# Altium footprint library Relay.PcbLib: 14 footprints
Each footprint in its own frame and in the unit in brackets; x right, y up, seen from the top. Pads: shape width x height; smd on the part's side, far side on the other; paste and mask are expansions set on the pad; w line width, h text height; cw(c..) or ccw(c..) is an arc to the next point about the centre after c.
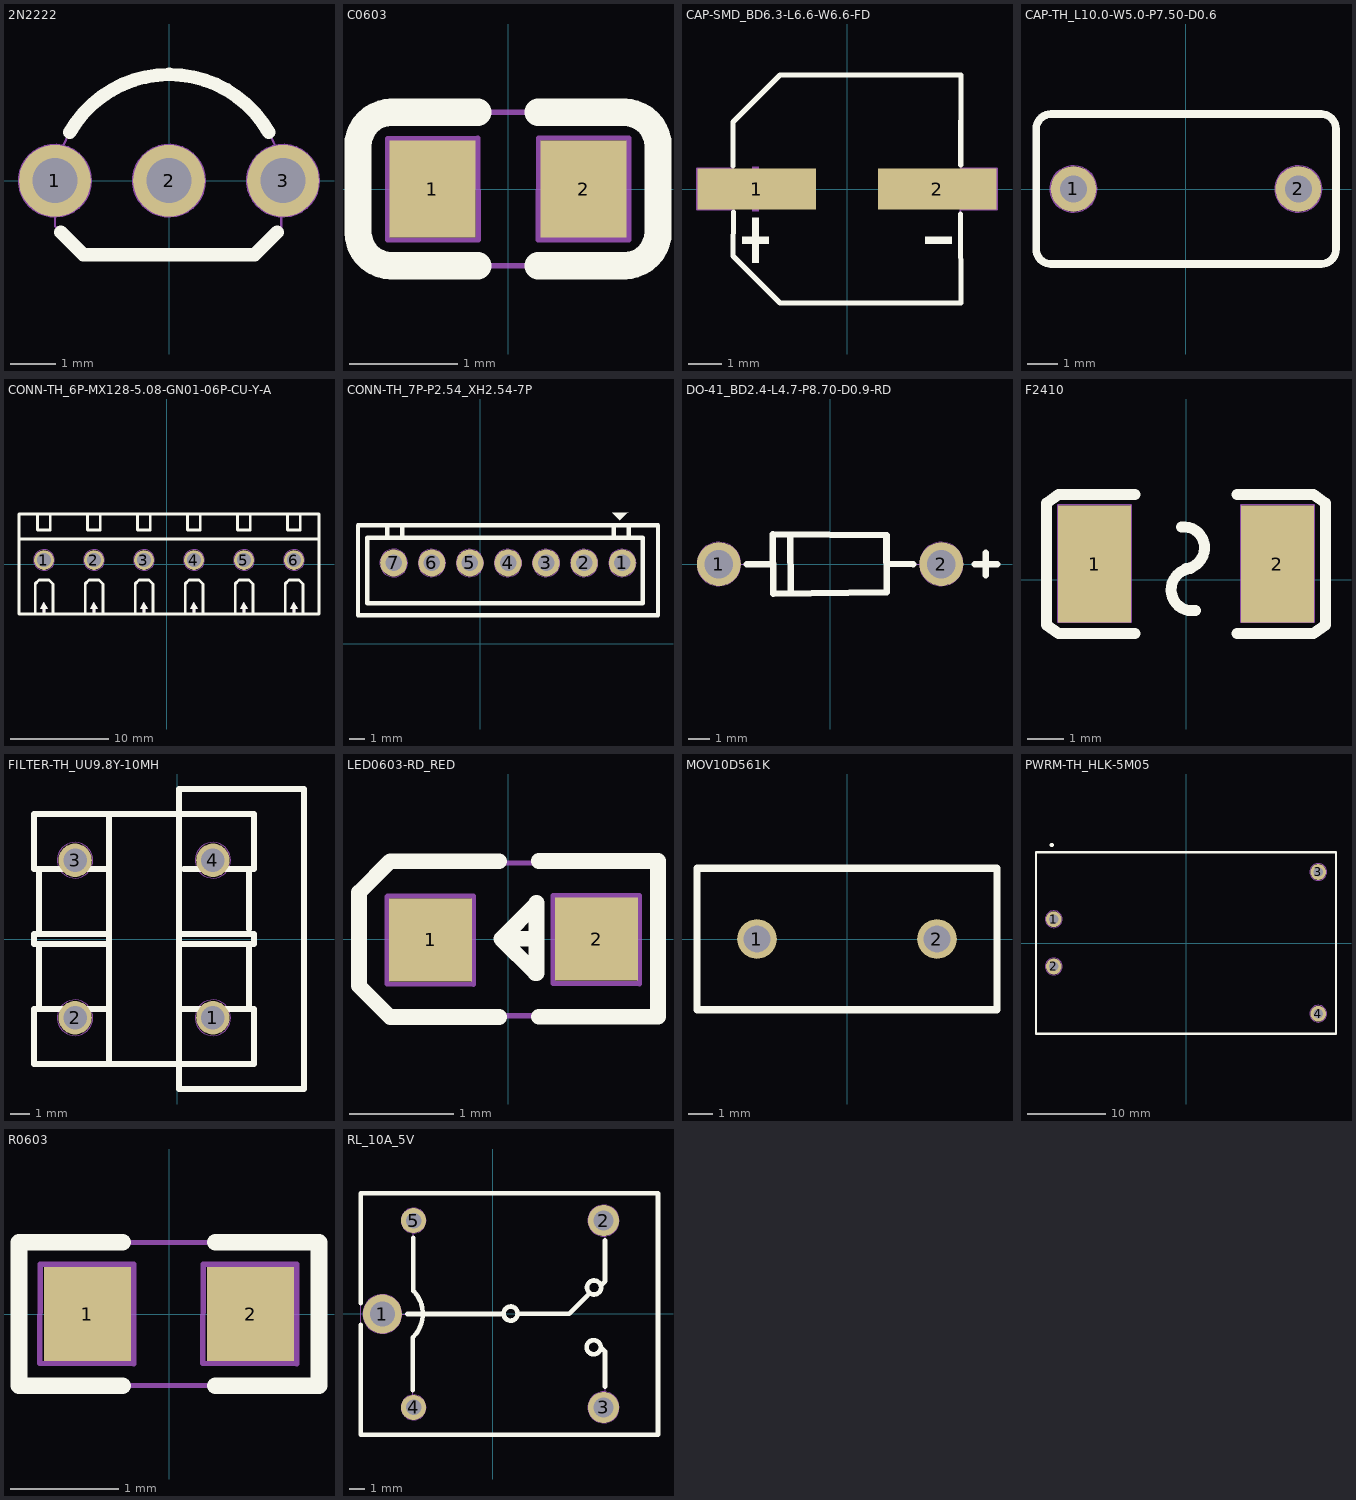
[diagram p0: the footprints below, top view; thin cyan lines are the x and y axes]

## 2N2222 [mm] "TO-92 Bent Lead, Flat Index; 3 In-Line, Axial Leads; Body Dia. 4.5mm; Leads 0.51 x 0.48 mm (max)"
height 6.5
pads (3):
  round 1.6 hole 1 mask+0.1: 1(-2.54,0) 2(0,0)
  round 1.6 hole 1: 3(2.54,0)
Top Overlay:
  lines w0.3: -2.413,-1.143 -1.905,-1.651 1.905,-1.651 2.413,-1.143 ; -2.212,1.074 cw(c0.006,-0.185) 2.221,1.079
Mechanical 1:
  circle w0.05: c2.54,0 r0.8
  circle w0.05: c0,0 r0.8
  circle w0.05: c-2.54,0 r0.8
  lines w0.05: -2.54,-0.8 -2.54,-1.016 -1.905,-1.651 1.905,-1.651 2.5,-1.056 2.5,-0.8 ; -2.351,0.789 cw(c0.006,-0.185) 2.364,0.785
  text "C" at 2.4,-0.4 h0.8
  text "E" at -2.8,-0.4 h0.8
  text "B" at -0.2,-0.4 h0.8
Mechanical 15:
  lines w0.1: -0.5,0 0.5,0 ; 0,-0.5 0,0.5
3D body "TO-92_Bent.STEP": height 10, standoff -3, extent -2.79,-1.59 2.79,2.613

## C0603 [mm] "cap 0603"
height 0.85
pads (2):
  rect 0.8x0.9 smd paste+0 mask+0.051: 1(-0.7,0) 2(0.7,0)
Top Overlay:
  lines w0.254: -0.28,-0.71 -1.08,-0.71 cw(c-1.08,-0.4) -1.39,-0.4 -1.39,0.4 cw(c-1.08,0.4) -1.08,0.71 -0.28,0.71 ; 0.28,-0.71 1.08,-0.71 ; 0.28,0.71 1.08,0.71 ; 1.08,-0.71 ccw(c1.08,-0.4) 1.39,-0.4 1.39,0.4 ccw(c1.08,0.4) 1.08,0.71
Mechanical 2:
  lines w0.05: 1.08,-0.71 ccw(c1.08,-0.4) 1.39,-0.4 1.39,0.4 ccw(c1.08,0.4) 1.08,0.71 ; 1.08,-0.71 0.28,-0.71 -0.28,-0.71 -1.08,-0.71 cw(c-1.08,-0.4) -1.39,-0.4 -1.39,0.4 cw(c-1.08,0.4) -1.08,0.71 -0.28,0.71 0.28,0.71 1.08,0.71 ; -1.117,-0.47 -0.277,-0.473 -0.279,0.471 -1.114,0.468 -1.117,-0.47 ; 0.28,-0.468 1.119,-0.472 1.118,0.472 0.283,0.469 0.28,-0.468
3D body "User Library-C0603-2.sldprt": height 0.8, standoff 0, extent -0.81,-0.396 0.79,0.404

## CAP-SMD_BD6.3-L6.6-W6.6-FD [mm] "CAP ALUM 220uF ±20% 10V SMD"
height 5.9
pads (2):
  rect 3.5x1.2 smd paste+0 mask+0.051: 1(-2.67,0) 2(2.67,0)
Top Overlay:
  region: -2.805,-0.858 -2.805,-2.178 -2.607,-2.178 -2.607,-0.858
  region: -3.102,-1.419 -3.102,-1.617 -2.31,-1.617 -2.31,-1.419
  region: 3.102,-1.419 3.102,-1.617 2.31,-1.617 2.31,-1.419
  lines w0.152: -3.376,0.686 -3.376,1.98 -1.98,3.376 3.376,3.376 3.369,0.707 ; -3.362,-0.686 -3.376,-1.981 -1.981,-3.376 3.376,-3.376 3.356,-0.74
Mechanical 2:
  lines w0.05: -3.391,0.613 -4.441,0.607 -4.441,-0.606 -3.375,-0.606 ; 3.375,0.605 4.441,0.605 4.441,-0.608 3.391,-0.613 ; -3.376,-1.981 -1.981,-3.376 3.376,-3.376 3.356,-0.74 3.369,0.707 3.376,3.376 -1.98,3.376 -3.376,1.98 -3.376,0.686 -3.362,-0.686 -3.376,-1.981
Mechanical 15:
  region: -2.81,0.66 -2.81,-0.66 -2.612,-0.66 -2.612,0.66
  region: -3.102,0.099 -3.102,-0.099 -2.31,-0.099 -2.31,0.099
  region: 3.102,0.099 3.102,-0.099 2.31,-0.099 2.31,0.099
3D body "EEEFT1A221AL.STEP": height 5.8, standoff 0, extent -3.629,-3.293 3.671,3.307

## CAP-TH_L10.0-W5.0-P7.50-D0.6 [mil] "275V 100nF X2 ±10% Through Hole,P=7.5mm Ceramic Capacitors ROHS"
height 200.79
pads (2):
  round 60 hole 35.43 paste-99999 mask+2: 1(-147.64,0) 2(147.64,0)
Top Overlay:
  lines w10: -177.16,-98.43 -177.16,-98.42 ; -176.96,-98.43 cw(c-176.96,-78.74) -196.65,-78.74 -196.65,78.74 cw(c-176.96,78.74) -176.96,98.43 177.37,98.43 ; -176.96,-98.42 177.37,-98.42 ccw(c177.37,-78.74) 197.06,-78.74 197.05,78.74 ccw(c177.37,78.74) 177.37,98.42 ; 177.16,98.42 177.16,98.43
Mechanical 2:
  circle w1.97: c147.64,0 r30.56
  circle w1.97: c-147.64,0 r30.56
  lines w1.97: -177.16,-98.43 cw(c-177.16,-78.74) -196.85,-78.74 -196.85,78.74 cw(c-177.17,78.74) -177.17,98.43 177.16,98.43 ; -177.16,-98.42 177.17,-98.42 ccw(c177.17,-78.74) 196.85,-78.74 196.85,78.74 ccw(c177.16,78.74) 177.16,98.42

## CONN-TH_6P-MX128-5.08-GN01-06P-CU-Y-A [mm] "1x6P 12~24 10A Green -40℃~+105℃ 300V Through Hole 5.08mm 6 1 Through Hole,P=5.08mm Wire to Board ROHS"
height 14
pads (6):
  round 2 hole 1.4 paste-2539.97 mask+0.05: 1(-12.464,0.4) 2(-7.384,0.4) 3(-2.304,0.4) 4(2.776,0.4) 5(7.856,0.4) 6(12.936,0.4)
Top Overlay:
  region: 12.555,-4.545 13.317,-4.545 12.936,-3.91
  region: 7.475,-4.545 8.237,-4.545 7.856,-3.91
  region: 12.809,-4.545 12.809,-4.926 13.063,-4.926 13.063,-4.545
  region: 7.729,-4.545 7.729,-4.926 7.983,-4.926 7.983,-4.545
  region: 2.649,-4.545 2.649,-4.926 2.903,-4.926 2.903,-4.545
  region: 2.395,-4.545 3.157,-4.545 2.776,-3.91
  region: -2.685,-4.545 -1.923,-4.545 -2.304,-3.91
  region: -2.431,-4.545 -2.431,-4.926 -2.177,-4.926 -2.177,-4.545
  region: -7.765,-4.545 -7.003,-4.545 -7.384,-3.91
  region: -7.511,-4.545 -7.511,-4.926 -7.257,-4.926 -7.257,-4.545
  region: -12.591,-4.545 -12.591,-4.926 -12.337,-4.926 -12.337,-4.545
  region: -12.845,-4.545 -12.083,-4.545 -12.464,-3.91
  lines w0.3: -15.004,2.533 15.477,2.533 ; -15.004,5.066 -15.004,-5.1 15.477,-5.1 15.477,5.1 -15.004,5.1 ; -13.353,-5.1 -13.353,-2.013 -12.972,-1.632 -11.956,-1.632 -11.562,-2.026 -11.562,-5.1 ; -13.101,5.1 -13.101,3.432 -11.829,3.432 -11.829,5.1 ; -8.273,-5.1 -8.273,-2.013 -7.892,-1.632 -6.876,-1.632 -6.482,-2.026 -6.482,-5.1 ; -8.021,5.1 -8.021,3.432 -6.749,3.432 -6.749,5.1 ; -3.193,-5.1 -3.193,-2.013 -2.812,-1.632 -1.796,-1.632 -1.402,-2.026 -1.402,-5.1 ; -2.941,5.1 -2.941,3.432 -1.669,3.432 -1.669,5.1 ; 1.887,-5.1 1.887,-2.013 2.268,-1.632 3.284,-1.632 3.678,-2.026 3.678,-5.1 ; 2.139,5.1 2.139,3.432 3.411,3.432 3.411,5.1 ; 6.967,-5.1 6.967,-2.013 7.348,-1.632 8.364,-1.632 8.758,-2.026 8.758,-5.1 ; 7.219,5.1 7.219,3.432 8.491,3.432 8.491,5.1 ; 12.047,-5.1 12.047,-2.013 12.428,-1.632 13.444,-1.632 13.838,-2.026 13.838,-5.1 ; 12.299,5.1 12.299,3.432 13.571,3.432 13.571,5.1
Mechanical 2:
  circle w0.05: c-12.464,0.4 r1.054
  circle w0.05: c-12.464,0.4 r1.054
  circle w0.05: c12.936,0.4 r1.054
  circle w0.05: c7.856,0.4 r1.054
  circle w0.05: c2.776,0.4 r1.054
  circle w0.05: c-2.304,0.4 r1.054
  circle w0.05: c-7.384,0.4 r1.054
  region: -12.591,-4.545 -12.591,-4.926 -12.337,-4.926 -12.337,-4.545
  region: -12.845,-4.545 -12.083,-4.545 -12.464,-3.91
  region: 2.395,-4.545 3.157,-4.545 2.776,-3.91
  region: 2.649,-4.545 2.649,-4.926 2.903,-4.926 2.903,-4.545
  region: -7.765,-4.545 -7.003,-4.545 -7.384,-3.91
  region: 7.729,-4.545 7.729,-4.926 7.983,-4.926 7.983,-4.545
  region: 12.809,-4.545 12.809,-4.926 13.063,-4.926 13.063,-4.545
  region: 7.475,-4.545 8.237,-4.545 7.856,-3.91
  region: 12.555,-4.545 13.317,-4.545 12.936,-3.91
  region: -7.511,-4.545 -7.511,-4.926 -7.257,-4.926 -7.257,-4.545
  region: -2.431,-4.545 -2.431,-4.926 -2.177,-4.926 -2.177,-4.545
  region: -2.685,-4.545 -1.923,-4.545 -2.304,-3.91
  lines w0.05: -15.004,2.533 15.477,2.533 ; -15.004,5.066 -15.004,-5.1 15.477,-5.1 15.477,5.1 -15.004,5.1 ; -13.353,-5.1 -13.353,-2.013 -12.972,-1.632 -11.956,-1.632 -11.562,-2.026 -11.562,-5.1 ; -13.101,5.1 -13.101,3.432 -11.829,3.432 -11.829,5.1 ; -8.273,-5.1 -8.273,-2.013 -7.892,-1.632 -6.876,-1.632 -6.482,-2.026 -6.482,-5.1 ; -8.021,5.1 -8.021,3.432 -6.749,3.432 -6.749,5.1 ; -3.193,-5.1 -3.193,-2.013 -2.812,-1.632 -1.796,-1.632 -1.402,-2.026 -1.402,-5.1 ; -2.941,5.1 -2.941,3.432 -1.669,3.432 -1.669,5.1 ; 1.887,-5.1 1.887,-2.013 2.268,-1.632 3.284,-1.632 3.678,-2.026 3.678,-5.1 ; 2.139,5.1 2.139,3.432 3.411,3.432 3.411,5.1 ; 6.967,-5.1 6.967,-2.013 7.348,-1.632 8.364,-1.632 8.758,-2.026 8.758,-5.1 ; 7.219,5.1 7.219,3.432 8.491,3.432 8.491,5.1 ; 12.047,-5.1 12.047,-2.013 12.428,-1.632 13.444,-1.632 13.838,-2.026 13.838,-5.1 ; 12.299,5.1 12.299,3.432 13.571,3.432 13.571,5.1
3D body "Screw Terminal Block 5mm 6-way.step": height 10, standoff -2, extent -14.75,-3.65 15.4,4.35

## CONN-TH_7P-P2.54_XH2.54-7P [mm] "XH 1x7P 7P Tin -25℃~+85℃ White 2.5mm 250V 7 2A 1 Through Hole Through Hole,P=2.5mm Headers, Male Pins ROHS"
height 5.08
pads (7):
  round 1.8 hole 1.1 paste-2539.97 mask+0.051: 1(9.481,5.387) 2(6.941,5.387) 3(4.401,5.387) 4(1.861,5.387) 5(-0.679,5.387) 6(-3.219,5.387) 7(-5.759,5.387)
Top Overlay:
  region: 8.825,8.75 9.325,8.25 9.825,8.75 9.875,8.75
  lines w0.3: -6.179,7.087 -6.179,7.787 ; -5.179,7.787 -5.178,7.074 ; 8.901,7.187 8.901,7.822 ; 9.916,7.165 9.916,7.8 ; -8.139,1.887 11.861,1.887 11.861,7.887 -8.139,7.887 -8.139,1.887 ; -7.536,2.694 6.053,2.694 10.861,2.694 10.861,7.063 6.02,7.063 -7.536,7.063 -7.536,2.694
Mechanical 2:
  circle w0.05: c-5.759,5.387 r0.927
  circle w0.05: c-3.219,5.387 r0.916
  circle w0.05: c-0.679,5.387 r0.916
  circle w0.05: c1.861,5.387 r0.916
  circle w0.05: c4.401,5.387 r0.916
  circle w0.05: c6.941,5.387 r0.916
  circle w0.05: c9.481,5.387 r0.916
  lines w0.05: -6.179,7.087 -6.179,7.787 ; -5.179,7.787 -5.178,7.074 ; 8.901,7.187 8.901,7.822 ; 9.916,7.165 9.916,7.8 ; -8.139,1.887 11.861,1.887 11.861,7.887 -8.139,7.887 -8.139,1.887 ; -7.536,2.694 6.053,2.694 10.861,2.694 10.861,7.063 6.02,7.063 -7.536,7.063 -7.536,2.694
3D body "User Library-XH2.54-7P_XH2.54-7P.STEP.SLDPRT": height 7, standoff -2.5, extent -8.231,2.043 12.009,7.743

## DO-41_BD2.4-L4.7-P8.70-D0.9-RD [mm] "30A 1kV 1.1V@1A 1A DO-41 Single Diodes ROHS"
pads (2):
  round 2 hole 1.3 mask+0.1: 1(-5.08,0) 2(5.08,0)
Top Overlay:
  lines w0.3: -3.8,-0.015 -2.608,0.002 ; -1.825,1.295 -1.805,-1.26 ; 2.58,0.012 3.8,-0.015 ; 6.604,0 7.62,0 ; 7.112,-0.508 7.112,0.508 ; -2.615,1.355 2.575,1.32 2.585,-1.295 -2.6,-1.35 -2.615,1.355
Mechanical 2:
  circle w0.05: c5.08,0 r1
  circle w0.05: c5.08,0 r1
  circle w0.05: c-5.08,0 r1
  lines w0.05: -4.08,0 -2.6,0 ; 2.6,0 4.08,-0.005 ; 6.604,0 7.62,0 ; 7.112,-0.508 7.112,0.508 ; -2.6,-1.35 2.6,-1.35 2.6,1.35 -2.6,1.35 -2.6,-1.35
3D body "User Library-DO-41-2.SLDPRT": height 2.72, standoff -2.6, extent -5.512,-1.36 5.512,1.36

## F2410 [mm]
pads (2):
  rect 2x3.2 smd paste+0 mask+0.051: 1(-2.5,0.432) 2(2.5,0.432)
Top Overlay:
  lines w0.3: -1.4,-1.473 -3.485,-1.473 -3.81,-1.231 -3.81,2.094 -3.483,2.337 -1.4,2.337 ; -0.127,1.448 cw(c-0.067,0.876) 0,0.305 ; 0.127,0.305 ccw(c0.169,-0.269) 0.254,-0.838 ; 1.4,-1.473 3.485,-1.473 3.81,-1.231 3.81,2.094 3.483,2.337 1.4,2.337
Mechanical 2:
  lines w0.05: -1.4,-1.473 -3.485,-1.473 -3.81,-1.231 -3.81,2.094 -3.483,2.337 -1.4,2.337 ; -0.127,1.448 cw(c-0.067,0.876) 0,0.305 ; 0.127,0.305 ccw(c0.169,-0.269) 0.254,-0.838 ; 1.4,-1.473 3.485,-1.473 3.81,-1.231 3.81,2.094 3.483,2.337 1.4,2.337 ; -3.5,-1.15 -3.5,2.05 -1.5,2.05 -1.5,-1.15 -3.5,-1.15 ; 1.5,-1.15 1.5,2.05 3.5,2.05 3.5,-1.15 1.5,-1.15
3D body "0679L1000-05.STEP": height 2.57, standoff 0.03, extent -3.1,-0.95 3,1.84

## FILTER-TH_UU9.8Y-10MH [mm]
pads (4):
  round 1.7 hole 1.2 paste-2539.97 mask+0.051: 1(1.8,-4) 2(-5.2,-4) 3(-5.2,4) 4(1.8,4)
Top Overlay:
  lines w0.3: -7.034,-0.254 -7.034,-3.556 -3.478,-3.556 ; -7.034,0.254 -7.034,3.556 ; -6.78,-3.556 -7.288,-3.556 -7.288,-6.35 -3.478,-6.35 ; -3.478,-0.254 -7.288,-0.254 -7.288,0.254 -3.478,0.254 ; -3.478,3.556 -7.288,3.556 -7.288,6.35 -3.478,6.35 ; 0.078,-6.096 0.078,-3.556 3.888,-3.556 3.888,-6.35 3.634,-6.35 0.078,-6.35 ; 0.078,-0.254 3.888,-0.254 3.888,0.254 0.078,0.254 ; 0.332,3.556 3.888,3.556 3.888,6.35 ; 3.634,-3.556 3.634,-0.254 ; 3.634,0.508 3.634,3.556 ; 3.634,6.35 3.888,6.35 ; -3.478,-6.35 0.078,-6.35 ; -3.478,-6.35 -3.478,6.35 ; -3.478,6.35 0.078,6.35 ; 0.078,-6.35 0.078,-7.62 6.428,-7.62 6.428,7.62 0.078,7.62 0.078,6.35 ; 0.078,-6.35 0.078,6.35 ; 0.078,6.35 3.888,6.35
Mechanical 2:
  circle w0.05: c-5.2,4 r0.905
  circle w0.05: c1.8,4 r0.905
  circle w0.05: c-5.2,-4 r0.905
  circle w0.05: c1.8,-4 r0.905
  lines w0.05: -7.288,-6.35 -3.478,-6.35 ; -7.288,-6.35 -7.288,-3.556 ; -7.288,-6.35 -3.478,-6.35 ; -7.288,-6.35 -7.288,-3.556 ; -7.288,-3.556 -6.78,-3.556 -7.288,-3.556 ; -7.288,-0.254 -7.288,0.254 ; -7.288,-0.254 -3.478,-0.254 -7.288,-0.254 ; -7.288,-0.254 -7.288,0.254 ; -7.288,0.254 -3.478,0.254 -7.288,0.254 ; -7.288,3.556 -7.288,6.35 ; -7.288,3.556 -3.478,3.556 -7.288,3.556 ; -7.288,3.556 -7.288,6.35 ; -7.288,6.35 -3.478,6.35 ; -7.288,6.35 -3.478,6.35 ; -7.034,-3.556 -3.478,-3.556 -7.034,-3.556 ; -7.034,-3.556 -7.034,-0.254 -7.034,-3.556 ; -3.478,-6.35 0.078,-6.35 ; -3.478,-6.35 -3.478,6.35 ; -3.478,-6.35 0.078,-6.35 ; -3.478,-6.35 -3.478,6.35 ; -3.478,6.35 0.078,6.35 ; -3.478,6.35 0.078,6.35 ; 0.078,-7.62 6.428,-7.62 ; 0.078,-7.62 0.078,-6.35 ; 0.078,-7.62 0.078,-6.35 ; 0.078,-7.62 6.428,-7.62 ; 0.078,-6.35 3.634,-6.35 ; 0.078,-6.35 0.078,6.35 ; 0.078,-6.35 3.634,-6.35 ; 0.078,-6.35 0.078,6.35 ; 0.078,-3.556 0.078,-6.096 0.078,-3.556 ; 0.078,-3.556 3.888,-3.556 ; 0.078,-3.556 3.888,-3.556 ; 0.078,6.35 0.078,7.62 ; 0.078,6.35 3.888,6.35 ; 0.078,6.35 3.888,6.35 ; 0.078,6.35 0.078,7.62 ; 0.078,7.62 6.428,7.62 ; 0.078,7.62 6.428,7.62 ; 3.634,-6.35 3.888,-6.35 ; 3.634,-6.35 3.888,-6.35 ; 3.888,-6.35 3.888,-3.556 ; 3.888,-6.35 3.888,-3.556 ; 3.888,-0.254 0.078,-0.254 3.888,-0.254 ; 3.888,-0.254 3.888,0.254 ; 3.888,-0.254 3.888,0.254 ; 3.888,0.254 0.078,0.254 3.888,0.254 ; 3.888,3.556 0.332,3.556 3.888,3.556 ; 3.888,3.556 3.888,6.35 ; 3.888,3.556 3.888,6.35 ; 3.888,6.35 3.634,6.35 3.888,6.35 ; 6.428,-7.62 6.428,7.62 ; 6.428,-7.62 6.428,7.62 ; -7.034,0.254 -7.034,3.556 -7.034,0.254 ; 3.634,-3.556 3.634,-0.254 3.634,-3.556 ; 3.634,0.508 3.634,3.556 3.634,0.508
3D body "User Library-UF9_8.SLDPRT": height 15.4, standoff -2.9, extent -7.05,-8.173 3.55,7.981

## LED0603-RD_RED [mm] "LED RED"
height 0.6
pads (2):
  rect 0.8x0.8 smd paste+0 mask+0.051: 1(-0.75,-0.009) 2(0.849,-0.002)
Top Overlay:
  lines w0.15: -0.09,-0.751 -1.14,-0.751 -1.44,-0.451 -1.44,-0.351 -1.44,0.349 -1.44,0.449 -1.14,0.749 -0.09,0.749 ; 0.27,0.001 -0.07,0.001 ; 0.29,-0.749 1.44,-0.749 ; 0.29,0.751 1.44,0.751 ; 1.44,-0.729 1.44,0.751 ; -0.07,0.001 0.27,0.341 0.27,0.351 0.27,-0.329 0.26,-0.329 -0.07,0.001
Mechanical 2:
  lines w0.05: -1.171,0.409 -1.171,-0.434 -0.336,-0.438 -0.336,0.413 -1.163,0.413 ; 0.428,0.416 0.428,-0.427 1.263,-0.431 1.263,0.42 0.436,0.42 ; -1.45,-0.447 -1.135,-0.74 1.437,-0.74 1.437,0.731 -1.146,0.731 -1.45,0.416 -1.45,-0.447
Mechanical 15:
  region: -1.02,0.056 -0.48,0.056 -0.48,-0.074 -1.02,-0.074
  region: 0.784,-0.272 0.784,0.268 0.914,0.268 0.914,-0.272
  region: 0.578,0.063 1.119,0.063 1.119,-0.067 0.578,-0.067
3D body "597-3326-607F.STEP": height 0.7, standoff 0, extent -0.7,-0.399 0.9,0.401

## MOV10D561K [mm] "925V 460V 350V 560V Through Hole,P=7.5mm Varistors, MOVs ROHS"
height 17.5
pads (2):
  round 1.65 hole 1.1 slot 1.1 at 0 deg paste-2539.97 mask+0.051: 1(-3.75,0) 2(3.75,0)
Top Overlay:
  lines w0.3: -6.25,-2.95 6.25,-2.95 6.25,2.95 -6.25,2.95 -6.25,-2.95
Mechanical 2:
  lines w0.05: -6.25,-2.95 6.25,-2.95 6.25,2.95 -6.25,2.95 -6.25,-2.95
3D body "User Library-MOV-10D561K.SLDPRT": height 11, standoff -4.5, extent -5.374,-1.584 5.614,1.826

## PWRM-TH_HLK-5M05 [mm] "AC/DC-DC DIP,38x23mm AC DC Converters ROHS"
height 1.8
pads (4):
  round 2 hole 1.2 paste-2539.97 mask+0.051: 1(-16.8,3.028) 2(-16.8,-2.971) 3(16.8,9.028) 4(16.8,-8.972)
Top Overlay:
  circle w0.3: c-17.05,12.45 r0.112
  lines w0.3: 19.05,-11.529 -19.05,-11.529 -19.05,11.529 19.05,11.529 19.05,-11.472
Mechanical 2:
  circle w0.05: c-16.8,-2.971 r1.071
  circle w0.05: c-16.8,3.028 r1.071
  circle w0.05: c16.8,9.028 r1.071
  circle w0.05: c16.8,-8.972 r1.071
  lines w0.05: 19.05,-11.529 -19.05,-11.529 -19.05,11.529 19.05,11.529 19.05,-11.472
3D body "HLK-5M05--3DModel-STEP-56544.STEP": height 18.5, standoff -4.5, extent -19,-11.529 19,11.471

## R0603 [mm] "Resister pakage 0603"
height 0.55
pads (2):
  rect 0.806x0.864 smd paste-100 mask+0.051: 1(-0.753,0) 2(0.753,0)
Top Overlay:
  lines w0.152: -0.426,-0.661 -1.385,-0.661 -1.385,0.661 -0.426,0.661 ; 0.426,-0.661 1.385,-0.661 1.385,0.661 0.426,0.661
Top Paste:
  region: 1.195,0.45 0.395,0.45 0.345,0.4 0.345,0.172 0.715,0.172 0.715,-0.158 0.345,-0.158 0.345,-0.4 0.395,-0.45 1.195,-0.45 1.245,-0.4 1.245,0.4
  region: -1.195,-0.45 -0.395,-0.45 -0.345,-0.4 -0.345,-0.172 -0.715,-0.172 -0.715,0.158 -0.345,0.158 -0.345,0.4 -0.395,0.45 -1.195,0.45 -1.245,0.4 -1.245,-0.4
Mechanical 2:
  lines w0.05: -1.385,-0.661 -1.385,0.661 -0.426,0.661 0.426,0.661 1.385,0.661 1.385,-0.661 0.426,-0.661 -0.426,-0.661 -1.385,-0.661 ; -1.193,-0.456 -0.326,-0.46 -0.326,0.461 -1.19,0.461 -1.193,-0.456 ; 0.313,-0.456 1.181,-0.46 1.181,0.461 0.317,0.461 0.313,-0.456
3D body "CircuitWorks-RESISTOR 0603.step": height 0.48, standoff -0.03, extent -0.798,-0.43 0.802,0.43

## RL_10A_5V [mm] "Relay SRD-05VDC-SL-C, 5 pin, 10A,19.1X15.5"
height 15.3
pads (5):
  round 2.5 hole 1.6: 1(-7.1,0)
  round 2 hole 1.3: 2(7.1,6) 3(7.1,-6)
  round 1.6 hole 1: 4(-5.1,-6) 5(-5.1,6)
Top Overlay:
  circle w0.3: c6.469,-2.134 r0.452
  circle w0.3: c6.494,1.702 r0.452
  circle w0.3: c1.135,0.025 r0.452
  lines w0.3: -8.5,-0.7 -8.5,-7.75 10.6,-7.75 10.6,7.75 -8.5,7.75 -8.5,0.7 ; -5.5,0 0.622,0 ; -5.149,-4.9 -5.149,-1.499 ; -5.123,-1.473 ccw(c-6.584,0.013) -5.098,1.473 ; -5.123,1.499 -5.123,4.9 ; 1.638,0.025 4.9,0.025 6.075,1.201 ; 6.921,-2.134 7.2,-2.413 7.2,-4.675 ; 6.946,1.854 7.2,2.108 7.2,4.725
Mechanical 1:
  circle w0.05: c6.494,1.702 r0.452
  circle w0.05: c6.469,-2.134 r0.452
  circle w0.05: c1.135,0.025 r0.452
  circle w0.05: c-7.1,0 r1.25
  circle w0.05: c-5.1,6 r0.8
  circle w0.05: c-5.1,-6 r0.8
  circle w0.05: c7.1,-6 r1
  circle w0.05: c7.1,6 r1
  lines w0.05: -5.85,0 0.66,0 ; -5.149,-5.19 -5.149,-1.499 ; -5.123,-1.473 ccw(c-6.584,0.013) -5.098,1.473 ; -5.123,1.499 -5.123,5.19 ; 1.587,0.025 4.9,0.025 6.187,1.313 ; 6.921,-2.134 7.2,-2.413 7.2,-5 ; 6.946,1.854 7.2,2.108 7.2,5 ; -8.5,-7.75 10.6,-7.75 10.6,7.75 -8.5,7.75 -8.5,-7.75
  text "3" at 6.7,-6.7 h1.2
  text "2" at 6.7,5.4 h1.2
  text "4" at -5.5,-6.6 h1.2
  text "5" at -5.4,5.5 h1.2
  text "1" at -7.3,-0.6 h1.2
3D body "User Library-SONGLE Relay SRU-12VDC-SL-C.step": height 15.3, standoff -5, extent -8.5,-7.75 10.6,7.75